# Altium footprint library uSiL-8.PcbLib: 1 footprints
Each footprint in its own frame and in the unit in brackets; x right, y up, seen from the top. Pads: shape width x height; smd on the part's side, far side on the other; paste and mask are expansions set on the pad; w line width, h text height; cw(c..) or ccw(c..) is an arc to the next point about the centre after c.
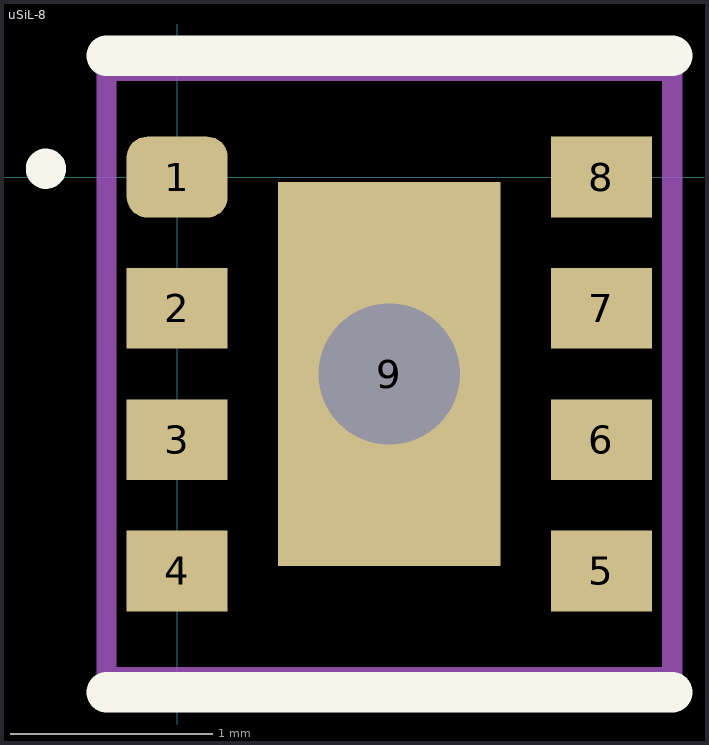
[diagram p0: the footprint, top view; thin cyan lines are the x and y axes]

## uSiL-8 [mm] "microSiP 9-pin 3.0x2.8mm"
height 1.53
pads (10):
  rrect50% 0.5x0.4 smd: 1(0,0)
  rect 0.5x0.4 smd: 2(0,-0.65) 3(0,-1.3) 4(0,-1.95) 5(2.1,-1.95) 6(2.1,-1.3) 7(2.1,-0.65) 8(2.1,0)
  rect 1.1x1.9 smd: 9(1.05,-0.975)
  round 1.1 hole 0.7: 9(1.05,-0.975)
Top Overlay:
  circle w0.1: c-0.65,0.041 r0.05
  lines w0.2: -0.35,-2.55 2.45,-2.55 ; -0.35,0.6 2.45,0.6
Mechanical 13 (Mech13):
  lines w0.1: -0.35,-2.475 2.45,-2.475 2.45,0.525 -0.35,0.525 -0.35,-2.475
3D body: height 1.53, standoff 0, extent -0.35,-2.475 2.45,0.525